# EAGLE library part SN74V2* (library Zoli2_2015-02-22)
FIFO memory
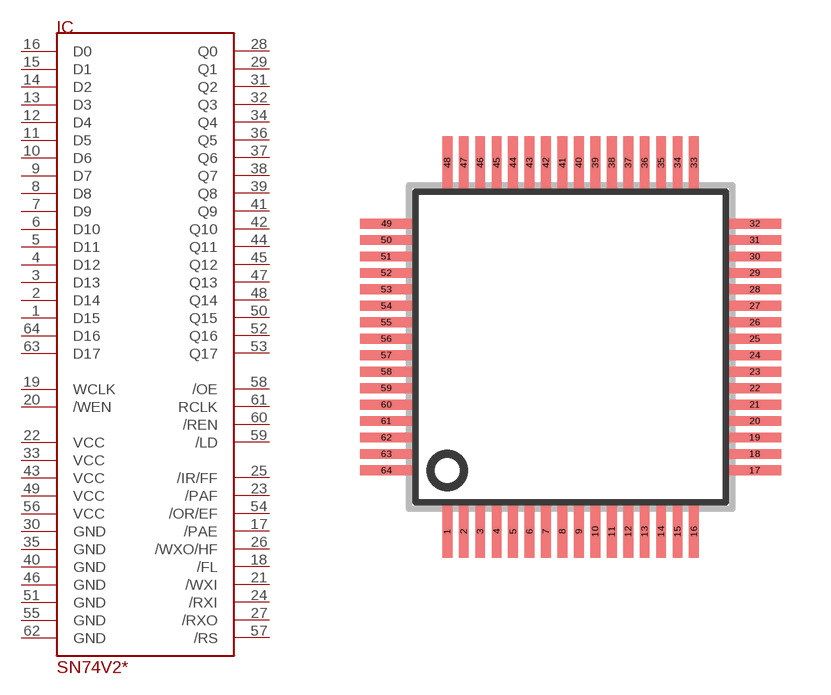
[diagram p19: symbol with the pads of SQFP-S-10X10-64; footprint SQFP-S-10X10-64]

Designator prefix IC

## SN74V235-15PAG, SN74V245-15PAG  [SQFP-S-10X10-64]
1  D15  in
2  D14  in
3  D13  in
4  D12  in
5  D11  in
6  D10  in
7  D9  in
8  D8  in
9  D7  in
10  D6  in
11  D5  in
12  D4  in
13  D3  in
14  D2  in
15  D1  in
16  D0  in
17  /PAE  out
18  /FL  in
19  WCLK  in
20  /WEN  in
21  /WXI  in
22  VCC  pwr
23  /PAF  out
24  /RXI  in
25  /IR/FF  out
26  /WXO/HF  out
27  /RXO  out
28  Q0  hiz
29  Q1  hiz
30  GND  pwr
31  Q2  hiz
32  Q3  hiz
33  VCC  pwr
34  Q4  hiz
35  GND  pwr
36  Q5  hiz
37  Q6  hiz
38  Q7  hiz
39  Q8  hiz
40  GND  pwr
41  Q9  hiz
42  Q10  hiz
43  VCC  pwr
44  Q11  hiz
45  Q12  hiz
46  GND  pwr
47  Q13  hiz
48  Q14  hiz
49  VCC  pwr
50  Q15  hiz
51  GND  pwr
52  Q16  hiz
53  Q17  hiz
54  /OR/EF  out
55  GND  pwr
56  VCC  pwr
57  /RS  in
58  /OE  in
59  /LD  in
60  /REN  in
61  RCLK  in
62  GND  pwr
63  D17  in
64  D16  in

## Footprint SQFP-S-10X10-64 (pad centres in mm)
QFP64 shrink quad flat pack, square
smd 0.3 x 1.6: 1 -3.75,-5.6; 2 -3.25,-5.6; 3 -2.75,-5.6; 4 -2.25,-5.6; 5 -1.75,-5.6; 6 -1.25,-5.6; 7 -0.75,-5.6; 8 -0.25,-5.6; 9 0.25,-5.6; 10 0.75,-5.6; 11 1.25,-5.6; 12 1.75,-5.6; 13 2.25,-5.6; 14 2.75,-5.6; 15 3.25,-5.6; 16 3.75,-5.6; 33 3.75,5.6; 34 3.25,5.6; 35 2.75,5.6; 36 2.25,5.6; 37 1.75,5.6; 38 1.25,5.6; 39 0.75,5.6; 40 0.25,5.6; 41 -0.25,5.6; 42 -0.75,5.6; 43 -1.25,5.6; 44 -1.75,5.6; 45 -2.25,5.6; 46 -2.75,5.6; 47 -3.25,5.6; 48 -3.75,5.6
smd 1.6 x 0.3: 17 5.6,-3.75; 18 5.6,-3.25; 19 5.6,-2.75; 20 5.6,-2.25; 21 5.6,-1.75; 22 5.6,-1.25; 23 5.6,-0.75; 24 5.6,-0.25; 25 5.6,0.25; 26 5.6,0.75; 27 5.6,1.25; 28 5.6,1.75; 29 5.6,2.25; 30 5.6,2.75; 31 5.6,3.25; 32 5.6,3.75; 49 -5.6,3.75; 50 -5.6,3.25; 51 -5.6,2.75; 52 -5.6,2.25; 53 -5.6,1.75; 54 -5.6,1.25; 55 -5.6,0.75; 56 -5.6,0.25; 57 -5.6,-0.25; 58 -5.6,-0.75; 59 -5.6,-1.25; 60 -5.6,-1.75; 61 -5.6,-2.25; 62 -5.6,-2.75; 63 -5.6,-3.25; 64 -5.6,-3.75